# Altium schematic symbol library MIC28517.Schlib: 1 symbol
Pins are listed as number, name and electrical type; pins without a type are passive.

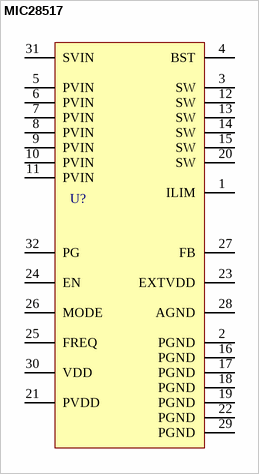
[diagram p0: symbol MIC28517]

## MIC28517
designator U?
70V/8A Synchronous DC/DC Buck Regulator with External Mode Control
pins: 1 ILIM, 2 PGND, 3 SW, 4 BST, 5 PVIN, 6 PVIN, 7 PVIN, 8 PVIN, 9 PVIN, 10 PVIN, 11 PVIN, 12 SW, 13 SW, 14 SW, 15 SW, 16 PGND, 17 PGND, 18 PGND, 19 PGND, 20 SW, 21 PVDD, 22 PGND, 23 EXTVDD, 24 EN, 25 FREQ, 26 MODE, 27 FB, 28 AGND, 29 PGND, 30 VDD, 31 SVIN, 32 PG